# Altium schematic symbol library SPST_no_lock.SchLib: 1 symbol
Pins are listed as number, name and electrical type; pins without a type are passive.

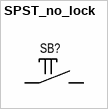
[diagram p0: symbol SPST_no_lock]

## SPST_no_lock
designator SB?
pins: 1, 2